# Altium schematic symbol library test_pad.SchLib: 1 symbol
Pins are listed as number, name and electrical type; pins without a type are passive.

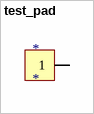
[diagram p0: symbol test_pad]

## test_pad
designator *
test pad
footprint test pad
footprint Test Pad Square - duplicate (2.65x2.65 mm)
footprint test pad small (test pad)
pins: 1